# Altium footprint library 器件封装.PCBLIB: 225 footprints (part 6 of 15)
Each footprint in its own frame and in the unit in brackets; x right, y up, seen from the top. Pads: shape width x height; smd on the part's side, far side on the other; paste and mask are expansions set on the pad; w line width, h text height; cw(c..) or ccw(c..) is an arc to the next point about the centre after c.
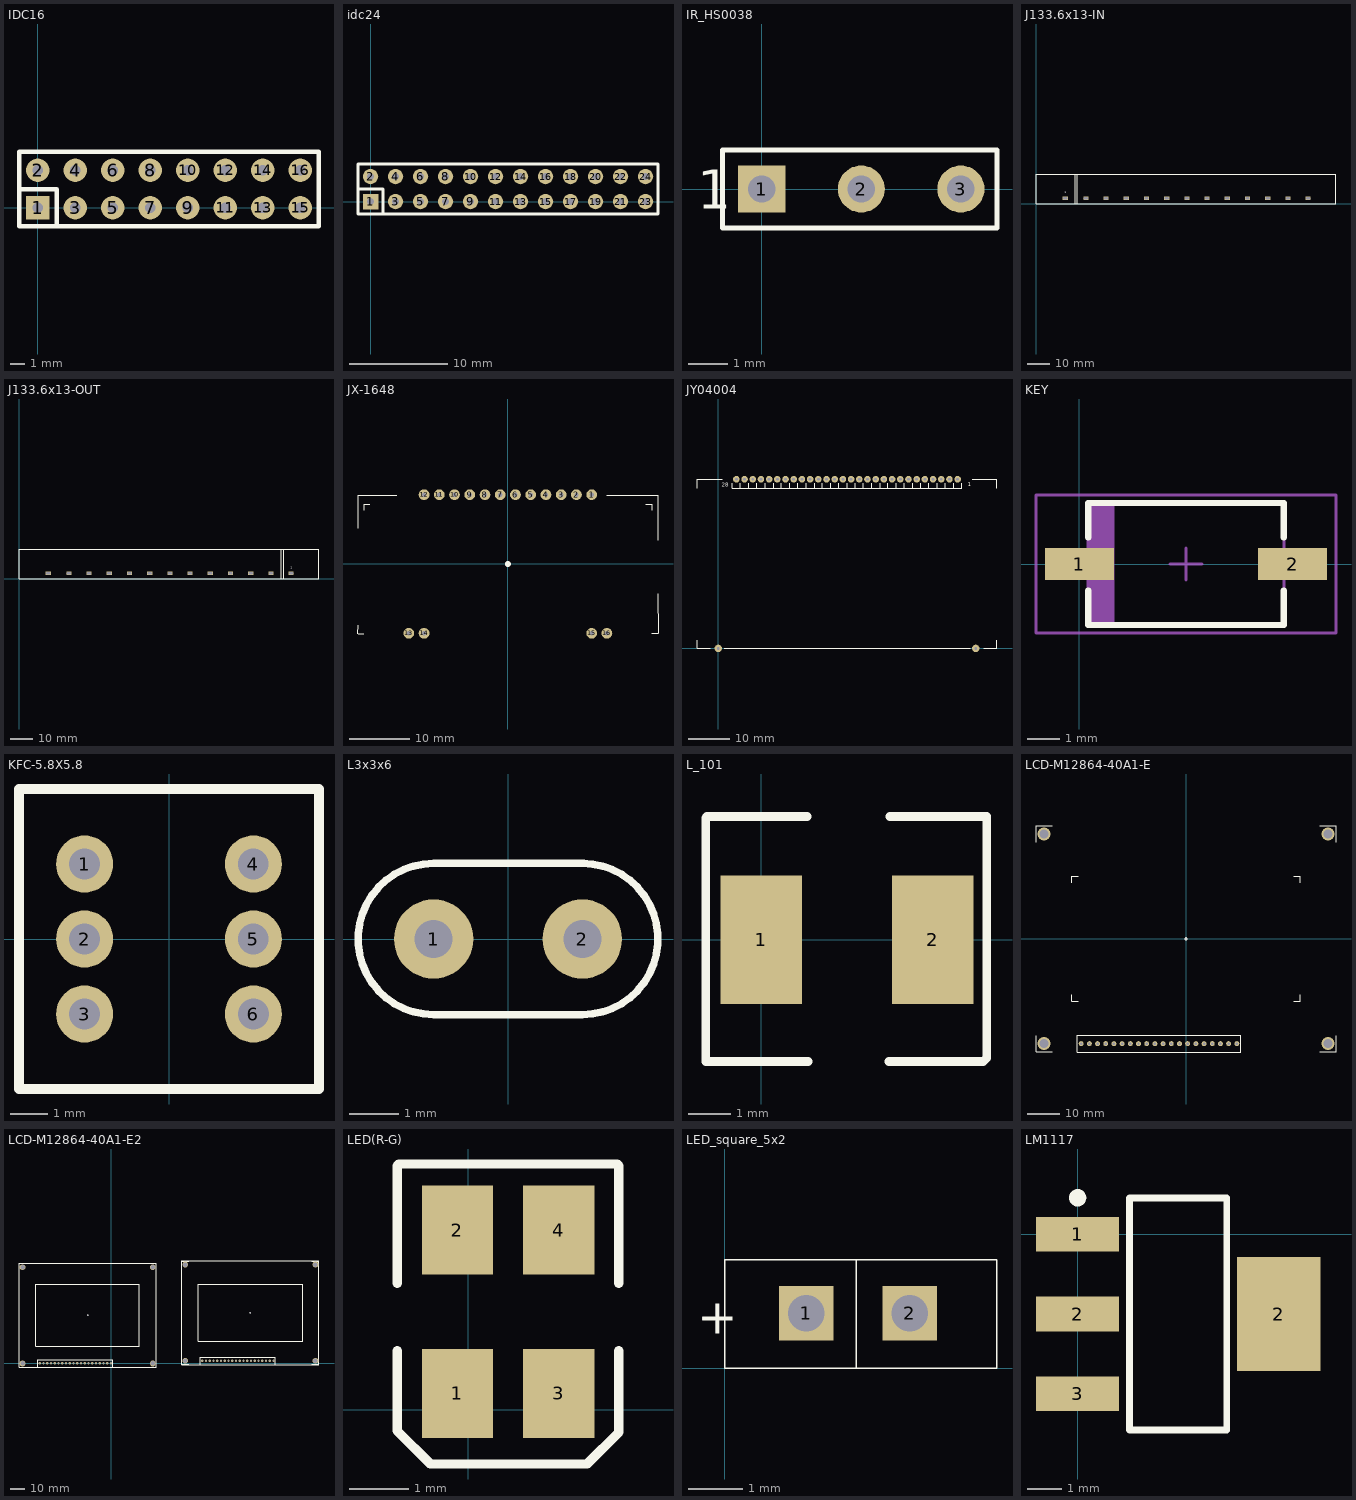
[diagram p5: the footprints below, top view; thin cyan lines are the x and y axes]

## IDC16 [mil]
pads (16):
  rect 62x62 hole 28: 1(0,0)
  round 62 hole 28: 2(0,100) 3(100,0) 4(100,100) 5(200,0) 6(200,100) 7(300,0) 8(300,100) 9(400,0) 10(400,100) 11(500,0) 12(500,100) 13(600,0) 14(600,100) 15(700,0) 16(700,100)
TopOverlay:
  lines w12: -50,50 50,50 50,-50 ; -50,-50 -50,150 750,150 750,-50 -50,-50

## idc24 [mil]
pads (24):
  rect 62x62 hole 28: 1(0,0)
  round 62 hole 28: 2(0,100) 3(100,0) 4(100,100) 5(200,0) 6(200,100) 7(300,0) 8(300,100) 9(400,0) 10(400,100) 11(500,0) 12(500,100) 13(600,0) 14(600,100) 15(700,0) 16(700,100) 17(800,0) 18(800,100) 19(900,0) 20(900,100) 21(1000,0) 22(1000,100) 23(1100,0) 24(1100,100)
TopOverlay:
  lines w12: -50,50 50,50 50,-50 ; -50,-50 -50,150 1150,150 1150,-50 -50,-50

## IR_HS0038 [mm]
pads (3):
  rect 1.2x1.2 hole 0.7: 1(0,0)
  round 1.2 hole 0.7: 2(2.54,0) 3(5.08,0)
TopOverlay:
  lines w0.127: -1,-1 6,-1 6,1 -1,1 -1,-1
  text "1" at -1.651,-0.508 h1

## J133.6x13-IN [mm]
pads (13):
  rect 2.3x1.5 hole 0.87 slot 1.68 at 0.85 deg: 1(13.02,2.355) 2(22.2,2.355) 3(31.2,2.355) 4(40.2,2.355) 5(49.2,2.355) 6(58.2,2.355) 7(67.2,2.355) 8(76.2,2.355) 9(85.2,2.355) 10(94.2,2.355) 11(103.2,2.355) 12(112.2,2.355) 13(121.2,2.355)
TopOverlay:
  lines w0.025: 17.399,0 17.399,13 ; 18.415,0 18.415,13 ; 133.6,0 0,0 0,13 133.6,13 ; 133.604,0 133.604,13
  text "1" at 12.827,4.699 h0.65

## J133.6x13-OUT [mm]
pads (13):
  rect 2.3x1.5 hole 0.87 slot 1.68 at 0.85 deg: 1(121.2,2.355) 2(112.2,2.355) 3(103.2,2.355) 4(94.2,2.355) 5(85.2,2.355) 6(76.2,2.355) 7(67.2,2.355) 8(58.2,2.355) 9(49.2,2.355) 10(40.2,2.355) 11(31.2,2.355) 12(22.2,2.355) 13(13.02,2.355)
TopOverlay:
  lines w0.025: 116.84,0 116.84,13 ; 117.856,0 117.856,13 ; 133.6,0 0,0 0,13 133.6,13 ; 133.604,0 133.604,13
  text "1" at 121.031,4.445 h0.65

## JX-1648 [mm]
pads (17):
  round 1 on Top Overlay: 0(0,0)
  round 1.8 hole 0.72: 1(13.97,11.55) 2(11.43,11.55) 3(8.89,11.55) 4(6.35,11.55) 5(3.81,11.55) 6(1.27,11.55) 7(-1.27,11.55) 8(-3.81,11.55) 9(-6.35,11.55) 10(-8.89,11.55) 11(-11.43,11.55) 12(-13.97,11.55) 13(-16.51,-11.55) 14(-13.97,-11.55) 15(13.97,-11.55) 16(16.51,-11.55)
TopOverlay:
  lines w0.185: -24.98,-11.65 -24.98,-10.2 ; -24.971,6 -24.971,11.45 -18.5,11.45 ; -24.97,-11.65 -24,-11.65 ; -24,8.99 -24,10 -22.99,10 ; 16.5,11.45 25.03,11.45 25.03,4 ; 23,10 24,10 24,8.96 ; 23.99,-11.55 25.03,-11.55 25.03,-5

## JY04004 [mm]
pads (30):
  round 1.6 hole 0.72: 1(58.42,41.25) 2(56.42,41.25) 3(54.42,41.25) 4(52.42,41.25) 5(50.42,41.25) 6(48.42,41.25) 7(46.42,41.25) 8(44.42,41.25) 9(42.42,41.25) 10(40.42,41.25) 11(38.42,41.25) 12(36.42,41.25) 13(34.42,41.25) 14(32.42,41.25) 15(30.42,41.25) 16(28.42,41.25) 17(26.42,41.25) 18(24.42,41.25) 19(22.42,41.25) 20(20.42,41.25) 21(18.42,41.25) 22(16.42,41.25) 23(14.42,41.25) 24(12.42,41.25) 25(10.42,41.25) 26(8.42,41.25) 27(6.42,41.25) 28(4.42,41.25)
  round 1.8 hole 0.72: 29(0,0) 30(62.84,0)
TopOverlay:
  lines w0.155: -5.18,2 -5.18,0 -2,0 ; -5.18,39 -5.18,41.25 1,41.25 ; 1.5,0 61.5,0 ; 3.42,40.25 3.42,39 59.42,39 59.42,40.25 ; 5.42,39 5.42,40.25 ; 7.42,39 7.42,40.25 ; 9.42,39 9.42,40.25 ; 11.42,39 11.42,40.25 ; 13.42,39 13.42,40.25 ; 15.42,39 15.42,40.25 ; 17.42,39 17.42,40.25 ; 19.42,39 19.42,40.25 ; 21.42,39 21.42,40.25 ; 23.42,39 23.42,40.25 ; 25.42,39 25.42,40.25 ; 27.42,39 27.42,40.25 ; 29.42,39 29.42,40.25 ; 31.42,39 31.42,40.25 ; 33.42,39 33.42,40.25 ; 35.42,39 35.42,40.25 ; 37.42,39 37.42,40.25 ; 39.42,39 39.42,40.25 ; 41.42,39 41.42,40.25 ; 43.42,39 43.42,40.25 ; 45.42,39 45.42,40.25 ; 47.42,39 47.42,40.25 ; 49.42,39 49.42,40.25 ; 51.42,39 51.42,40.25 ; 53.42,39 53.42,40.25 ; 55.42,39 55.42,40.25 ; 57.42,39 57.42,40.25 ; 62,41.25 68,41.25 68.02,41.23 68.02,39 ; 64.84,0 68,0 68,2
  text "1" at 60.84,39.6 h1
  text "28" at 0.84,39.4 h1

## KEY [mm] "Molded Diode, 2-Leads, Body 6.1x3.7mm, IPC Medium Density"
height 2.5
pads (2):
  rect 2.15x1 smd: 1(0,0) 2(6.65,0)
TopOverlay:
  lines w0.2: 0.275,-0.825 0.275,-1.9 6.375,-1.9 6.375,-0.825 ; 0.275,0.825 0.275,1.9 6.375,1.9 6.375,0.825
Mechanical13:
  rectangle: 0.275,-1.85 1.095,1.85
  lines w0.1: 0.275,-1.85 0.275,1.85 6.375,1.85 6.375,-1.85 0.275,-1.85
Mechanical15:
  lines w0.1: 2.825,0 3.825,0 ; 3.325,-0.5 3.325,0.5 ; -1.35,-2.15 -1.35,2.15 8,2.15 8,-2.15 -1.35,-2.15
3D body: height 2.5, standoff 0, extent 0.275,-1.85 6.375,1.85

## KFC-5.8X5.8 [mm]
pads (6):
  round 1.524 hole 0.82: 1(-2.25,2) 2(-2.25,0) 3(-2.25,-2) 4(2.25,2) 5(2.25,0) 6(2.25,-2)
TopOverlay:
  lines w0.254: -4,-4 4,-4 4,4 -4,4 -4,-4

## L3x3x6 [mm]
pads (2):
  round 1.6 hole 0.762: 1(-1.5,0) 2(1.5,0)
TopOverlay:
  lines w0.15: 1.5,1.524 cw(c1.5,0) 1.5,-1.524 -1.5,-1.524 cw(c-1.5,0) -1.5,1.524 1.524,1.524

## L_101 [mm]
pads (2):
  rect 1.9x3 smd: 1(0,0) 2(4,0)
TopOverlay:
  lines w0.2: 1.067,2.87 -1.27,2.87 -1.295,2.845 -1.295,-2.845 1.092,-2.845 ; 2.972,-2.845 5.182,-2.845 5.258,-2.769 5.258,2.87 2.997,2.87

## LCD-M12864-40A1-E [mil]
pads (21):
  round 39.37 on Top Overlay hole 3.94: 1(0,0)
  round 60 hole 30: 1(620.47,-1279.53) 2(520.47,-1279.53) 3(420.47,-1279.53) 4(320.47,-1279.53) 5(220.47,-1279.53) 6(120.47,-1279.53) 7(20.47,-1279.53) 8(-79.53,-1279.53) 9(-179.53,-1279.53) 10(-279.53,-1279.53) 11(-379.53,-1279.53) 12(-479.53,-1279.53) 13(-579.53,-1279.53) 14(-679.53,-1279.53) 15(-779.53,-1279.53) 16(-879.53,-1279.53) 17(-979.53,-1279.53) 18(-1079.53,-1279.53) 19(-1179.53,-1279.53) 20(-1279.53,-1279.53)
via 1732.28,1279.53 diameter 157.48 hole 110.24
via -1732.28,1279.53 diameter 157.48 hole 110.24
via -1732.28,-1279.53 diameter 157.48 hole 110.24
via 1732.28,-1279.53 diameter 157.48 hole 110.24
TopOverlay:
  lines w7.09: -1830.71,-1181.1 -1830.71,-1377.95 -1633.86,-1377.95 ; -1830.71,1181.1 -1830.71,1377.95 -1633.86,1377.95 ; -1391.73,-685.04 -1391.73,-763.78 -1312.99,-763.78 ; -1391.73,685.04 -1391.73,763.78 -1312.99,763.78 ; 1312.99,-763.78 1391.73,-763.78 1391.73,-685.04 ; 1312.99,763.78 1391.73,763.78 1391.73,685.04 ; 1633.86,-1377.95 1830.71,-1377.95 1830.71,-1181.1 ; 1633.86,1377.95 1830.71,1377.95 1830.71,1181.1 ; -1329.53,-1381.89 670.47,-1381.89 670.47,-1179.53 -1329.53,-1179.53 -1329.53,-1381.89

## LCD-M12864-40A1-E2 [mil]
pads (42):
  round 39.37 on Top Overlay hole 3.94: 1(-620.47,1279.53) 1(3708.66,1346.46)
  round 60 hole 30: 1(0,0) 1(4329.13,66.93) 2(-100,0) 2(4229.13,66.93) 3(-200,0) 3(4129.13,66.93) 4(-300,0) 4(4029.13,66.93) 5(-400,0) 5(3929.13,66.93) 6(-500,0) 6(3829.13,66.93) 7(-600,0) 7(3729.13,66.93) 8(-700,0) 8(3629.13,66.93) 9(-800,0) 9(3529.13,66.93) 10(-900,0) 10(3429.13,66.93) 11(-1000,0) 11(3329.13,66.93) 12(-1100,0) 12(3229.13,66.93) 13(-1200,0) 13(3129.13,66.93) 14(-1300,0) 14(3029.13,66.93) 15(-1400,0) 15(2929.13,66.93) 16(-1500,0) 16(2829.13,66.93) 17(-1600,0) 17(2729.13,66.93) 18(-1700,0) 18(2629.13,66.93) 19(-1800,0) 19(2529.13,66.93) 20(-1900,0) 20(2429.13,66.93)
via 1111.81,2559.05 diameter 157.48 hole 125.98
via -2352.76,2559.05 diameter 157.48 hole 125.98
via -2352.76,0 diameter 157.48 hole 125.98
via 1111.81,0 diameter 157.48 hole 125.98
via 5440.94,66.93 diameter 157.48 hole 110.24
via 1976.38,66.93 diameter 157.48 hole 110.24
via 1976.38,2625.98 diameter 157.48 hole 110.24
via 5440.94,2625.98 diameter 157.48 hole 110.24
TopOverlay:
  lines w7.09: -1950,-102.36 -1950,100 50,100 50,-102.36 ; 2379.13,-35.43 2379.13,166.93 4379.13,166.93 4379.13,-35.43 ; -2451.18,-102.36 -2451.18,2661.42 1210.24,2661.42 1210.24,-102.36 -2451.18,-102.36 ; -1998.42,452.76 -1998.42,2106.3 757.48,2106.3 757.48,452.76 -1998.42,452.76 ; 1877.95,-35.43 5539.37,-35.43 5539.37,2728.35 1877.95,2728.35 1877.95,-35.43 ; 2316.93,582.68 5100.39,582.68 5100.39,2110.24 2316.93,2110.24 2316.93,582.68
  lines w7.87: 1877.95,165.35 1877.95,-31.5 2074.8,-31.5 ; 1877.95,2527.56 1877.95,2724.41 2074.8,2724.41 ; 5342.52,-31.5 5539.37,-31.5 5539.37,165.35 ; 5342.52,2724.41 5539.37,2724.41 5539.37,2527.56
  lines w10: 2316.93,661.42 2316.93,582.68 2395.67,582.68 ; 2316.93,2031.5 2316.93,2110.24 2395.67,2110.24 ; 5021.65,582.68 5100.39,582.68 5100.39,661.42 ; 5021.65,2110.24 5100.39,2110.24 5100.39,2031.5

## LED(R-G) [mm]
pads (4):
  rect 1.2x1.5 smd: 1(-0.181,0.272) 2(-0.181,3.022) 3(1.529,0.272) 4(1.529,3.022)
TopOverlay:
  lines w0.16: -1.195,0.987 -1.195,-0.359 -0.636,-0.918 2.005,-0.918 2.539,-0.385 2.539,0.987 ; -1.195,2.13 -1.195,4.111 -1.17,4.137 2.513,4.137 2.539,4.111 2.539,2.13

## LED_square_5x2 [mm]
pads (2):
  rect 1x1 hole 0.67 square: 1(1.5,1.016) 2(3.4,1.016)
TopOverlay:
  lines w0.025: 2.413,0 2.413,2 ; 0,0 0,2 5,2 5,0 0,0
  text "+" at -0.508,0.635 h0.65

## LM1117 [mm]
pads (4):
  rect 2.4x1 smd: 1(0,0) 2(0,-2.3) 3(0,-4.6)
  rect 2.4x3.3 smd: 2(5.8,-2.3)
TopOverlay:
  circle w0.25: c0,1.05 r0.125
  lines w0.2: 1.5,-5.65 4.3,-5.65 4.3,1.05 1.5,1.05 1.5,-5.65